# EAGLE library part CH340C (library ch340g)
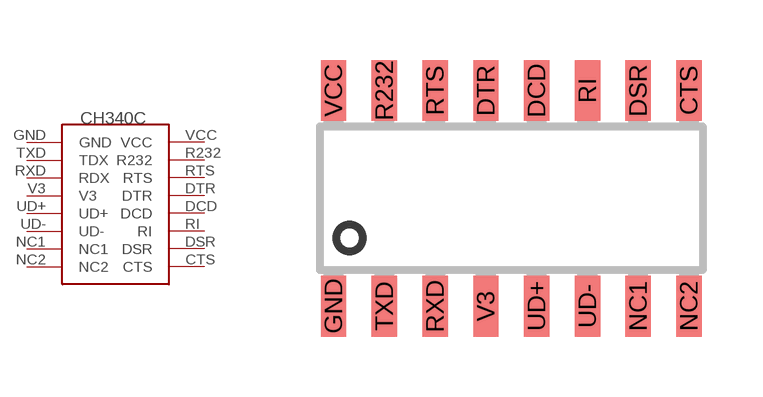
[diagram p0: symbol with the pads of SOIC16; footprint SOIC16]

Designator prefix -

## CH340C  [SOIC16]
CTS  CTS
DCD  DCD
DSR  DSR
DTR  DTR
GND  GND
NC1  NC1
NC2  NC2
R232  R232
RI  RI
RTS  RTS
RXD  RDX
TXD  TDX
UD+  UD+
UD-  UD-
V3  V3
VCC  VCC

## Footprint SOIC16 (pad centres in mm)
SMALL OUTLINE INTEGRATED CIRCUIT 16-Pin (150-Mil) SOIC Source: http://www.cypress.com .. 38-12025_0P_V.pdf
smd 0.635 x 1.524: CTS 4.445,2.695; DCD 0.635,2.695; DSR 3.175,2.695; DTR -0.635,2.695; GND -4.445,-2.695; NC1 3.175,-2.695; NC2 4.445,-2.695; R232 -3.175,2.695; RI 1.905,2.695; RTS -1.905,2.695; RXD -1.905,-2.695; TXD -3.175,-2.695; UD+ 0.635,-2.695; UD- 1.905,-2.695; V3 -0.635,-2.695; VCC -4.445,2.695